# EAGLE library part TL072 (library ic-ti)
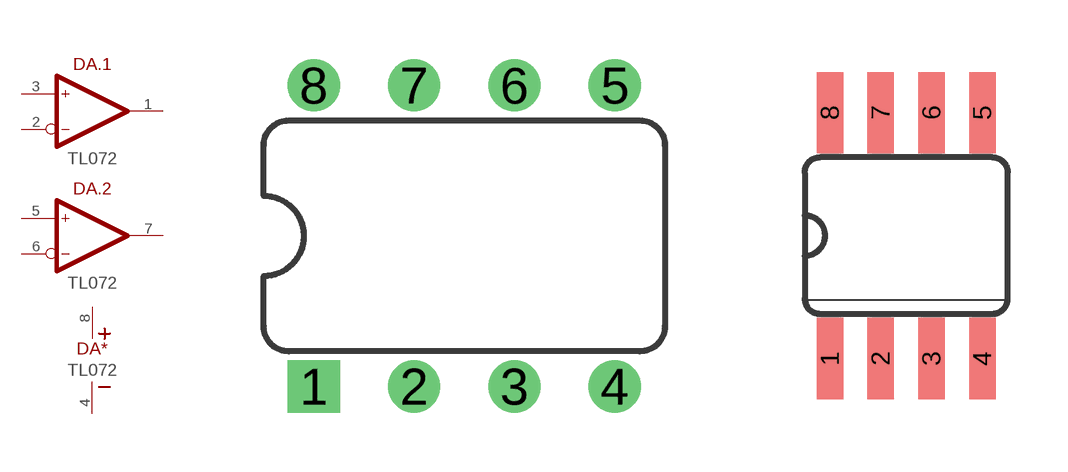
[diagram p0: symbol with the pads of DIP-8; footprints DIP-8, SO-8]

Designator prefix DA; gates .1=OPAMP .2=OPAMP *=SUPPLY

## TL072IP (MOUSER: 595-TL072IP)  [DIP-8]
1  .1:OUT  out
2  .1:IN-  in
3  .1:IN+  in
4  *:V-  pwr
5  .2:IN+  in
6  .2:IN-  in
7  .2:OUT  out
8  *:V+  pwr

## TL072ID (MOUSER: 511-TL072IDT)  [SO-8]
Pads as for DIP-8

## Footprint DIP-8 (pad centres in mm)
drill 0.813 square: 1 -3.81,-3.81
drill 0.813: 2 -1.27,-3.81; 3 1.27,-3.81; 4 3.81,-3.81; 5 3.81,3.81; 6 1.27,3.81; 7 -1.27,3.81; 8 -3.81,3.81

## Footprint SO-8 (pad centres in mm)
smd 0.66 x 2.032: 1 -1.905,-3.073; 2 -0.635,-3.073; 3 0.635,-3.073; 4 1.905,-3.073; 5 1.905,3.073; 6 0.635,3.073; 7 -0.635,3.073; 8 -1.905,3.073